# Altium footprint library PowerSupplyPE.PcbLib: 19 footprints (part 2 of 2)
Each footprint in its own frame and in the unit in brackets; x right, y up, seen from the top. Pads: shape width x height; smd on the part's side, far side on the other; paste and mask are expansions set on the pad; w line width, h text height; cw(c..) or ccw(c..) is an arc to the next point about the centre after c.
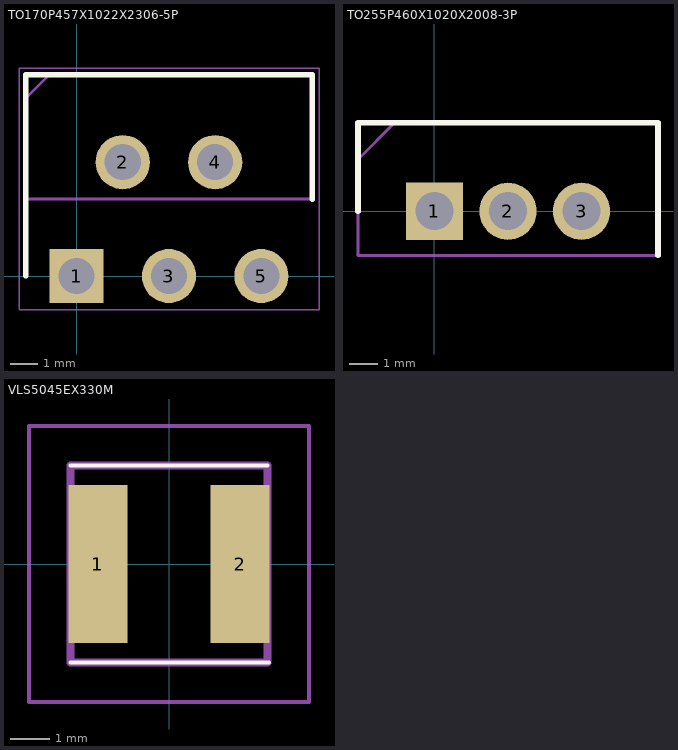
[diagram p1: the footprints below, top view; thin cyan lines are the x and y axes]

## TO170P457X1022X2306-5P [mm]
pads (5):
  rect 1.995x1.995 hole 1.33: 1(0,0)
  round 1.995 hole 1.33: 2(1.7,4.191) 3(3.4,0) 4(5.1,4.191) 5(6.8,0)
Top Overlay:
  lines w0.2: -1.87,0 -1.87,7.404 8.67,7.404 8.67,2.832
Mechanical 13:
  lines w0.1: -1.87,6.554 -1.02,7.404 ; -1.87,2.832 -1.87,7.404 8.671,7.404 8.671,2.832 -1.87,2.832
Mechanical 15:
  lines w0.05: -2.12,-1.248 -2.12,7.654 8.921,7.654 8.921,-1.248 -2.12,-1.248
3D body "LT3083ET#PBF.stp": height 21.18, standoff -11.89, extent -1.712,2.832 8.512,7.404

## TO255P460X1020X2008-3P [mm]
pads (3):
  rect 1.98x1.98 hole 1.32: 1(0,0)
  round 1.98 hole 1.32: 2(2.55,0) 3(5.1,0)
Top Overlay:
  lines w0.2: -2.65,0 -2.65,3.07 7.75,3.07 7.75,-1.53
Mechanical 13:
  lines w0.1: -2.65,1.795 -1.375,3.07 ; -2.65,-1.53 7.75,-1.53 7.75,3.07 -2.65,3.07 -2.65,-1.53
3D body "LM317T-DG.stp": height 19.22, standoff -18.2, extent -2.55,-1.53 7.65,3.07

## VLS5045EX330M [mm]
pads (2):
  rect 1.5x4 smd: 1(-1.8,0) 2(1.8,0)
Top Overlay:
  lines w0.1: -2.5,-2.5 2.54,-2.5 ; -2.5,2.5 2.5,2.5
Mechanical 13:
  lines w0.2: -2.5,-2.5 -2.5,2.5 2.5,2.5 2.5,-2.5 -2.5,-2.5
Mechanical 15:
  lines w0.1: -3.55,-3.5 -3.55,3.5 3.55,3.5 3.55,-3.5 -3.55,-3.5
3D body "VLS5045EX-4R7M-H.stp": height 4.35, standoff 0, extent -2.65,-2.5 2.65,2.5